# Altium schematic symbol library Fedor's_sch.SchLib: 115 symbols
Pins are listed as number, name and electrical type; pins without a type are passive.

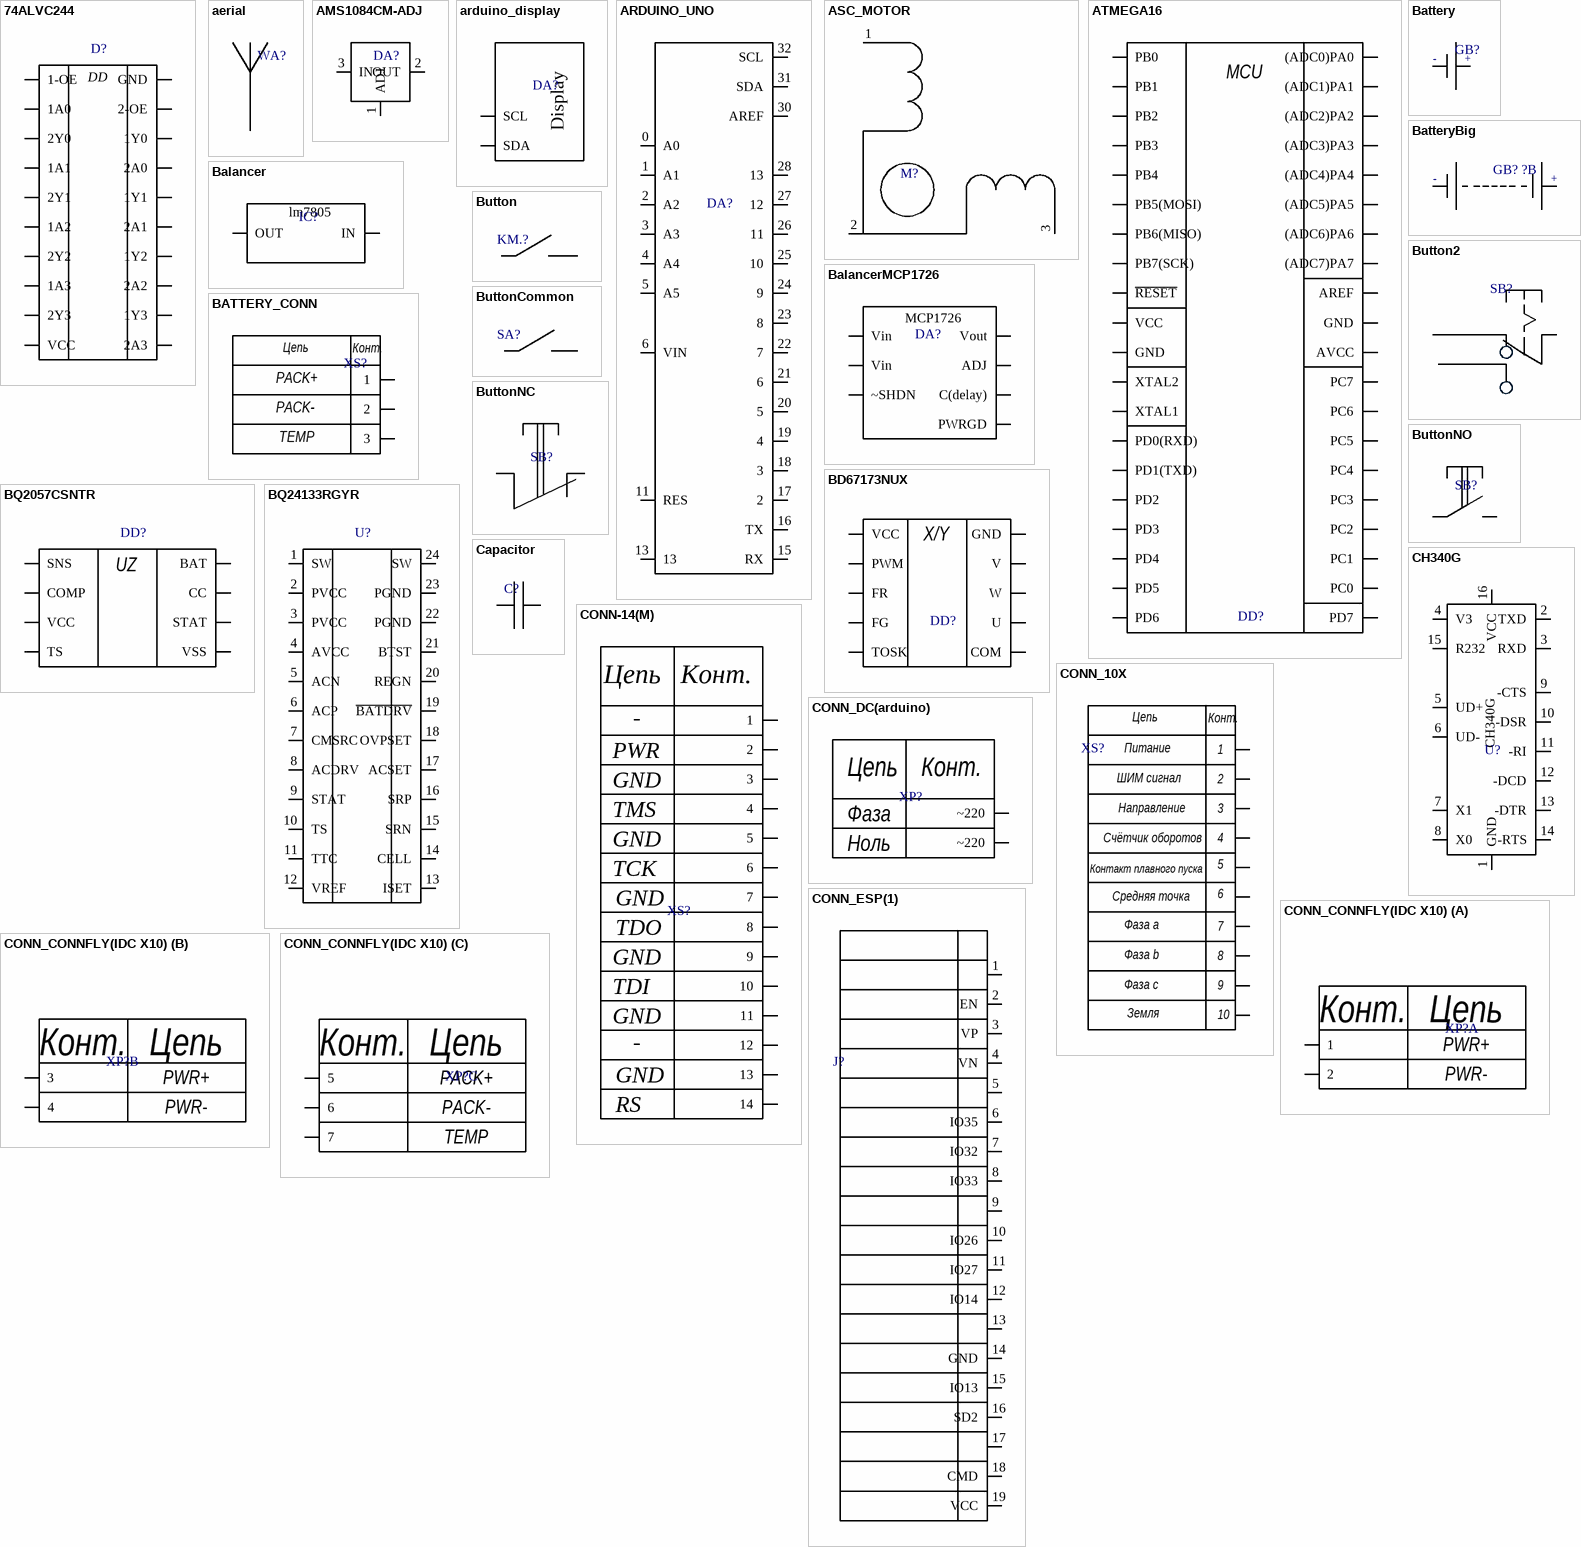
[diagram p0: symbols 74ALVC244 to CONN_ESP(1)]

## 74ALVC244
designator D?, comment buffer  (value not drawn)
footprint 74ALVC244 (BUFFER)
pins: 1 1-OE, 2 1A0, 3 2Y0, 4 1A1, 5 2Y1, 6 1A2, 7 2Y2, 8 1A3, 9 2Y3, 10 VCC, 11 2A3, 12 1Y3, 13 2A2, 14 1Y2, 15 2A1, 16 1Y1, 17 2A0, 18 1Y0, 19 2-OE, 20 GND
text: DD

## aerial
designator WA?  (value not drawn)
pins: 1

## AMS1084CM-ADJ
designator DA?  (value not drawn)
footprint AMS1084_Стабилизатор
pins: 1 ADJ, 2 OUT, 3 IN

## arduino_display
designator DA?  (value not drawn)
footprint arduino_display
pins: 1 GND hidden to GND, 2 VCC hidden to VCC, 3 SCL, 4 SDA
text: Display

## ARDUINO_UNO
designator DA?  (value not drawn)
footprint Arduino_Uno
pins: 0 A0, 1 A1, 2 A2, 3 A3, 4 A4, 5 A5, 6 VIN, 7 GND hidden to GND, 8 GND hidden to GND, 9 hidden, 10 +3.3V hidden to +3.3V, 11 RES, 12 +5V hidden to +5V, 13, 15 RX, 16 TX, 17 2, 18 3, 19 4, 20 5, 21 6, 22 7, 23 8, 24 9, 25 10, 26 11, 27 12, 28 13, 29 GND hidden to GND, 30 AREF, 31 SDA, 32 SCL

## ASC_MOTOR
designator M?  (value not drawn)
footprint PCBMotor-star4layer
pins: 1, 2, 3

## ATMEGA16
designator DD?  (value not drawn)
pins: 1 PB0, 2 PB1, 3 PB2, 4 PB3, 5 PB4, 6 PB5(MOSI), 7 PB6(MISO), 8 PB7(SCK), 9 ~{RESET}, 10 VCC, 11 GND, 12 XTAL2, 13 XTAL1, 14 PD0(RXD), 15 PD1(TXD), 16 PD2, 17 PD3, 18 PD4, 19 PD5, 20 PD6, 21 PD7, 22 PC0, 23 PC1, 24 PC2, 25 PC3, 26 PC4, 27 PC5, 28 PC6, 29 PC7, 30 AVCC, 31 GND, 32 AREF, 33 (ADC7)PA7, 34 (ADC6)PA6, 35 (ADC5)PA5, 36 (ADC4)PA4, 37 (ADC3)PA3, 38 (ADC2)PA2, 39 (ADC1)PA1, 40 (ADC0)PA0
text: MCU

## Balancer
designator IC?  (value not drawn)
footprint 7805 sbaliz
pins: 1 OUT, 2 GND hidden, 3 IN
text: lm7805

## BalancerMCP1726
designator DA?  (value not drawn)
footprint MCP1726
pins: 1 Vin, 2 Vin, 3 ~SHDN, 4 GND hidden to GND, 5 PWRGD, 6 C(delay), 7 ADJ, 8 Vout
text: MCP1726

## Battery
designator GB?  (value not drawn)
footprint battery
pins: 1, 2
text: -; +

## BATTERY_CONN
designator XS?  (value not drawn)
footprint conn(diy_x3)
pins: 1, 2, 3
text: Цепь; Конт.; PACK+; PACK-; TEMP

## BatteryBig
designator GB? ?В
footprint Power
pins: 1, 2
text: -; +

## BD67173NUX
designator DD?  (value not drawn)
footprint BD67173NUX (SON, 10-Leads, Body 3,00x3,00mm, Pitch 0,50mm, Thermal Pad 2,00x1,20mm, IPC High Density)
pins: 1 FG, 2 COM, 3 VCC, 4 U, 5 FR, 6 W, 7 V, 8 GND, 9 TOSK, 10 PWM
text: X/Y

## BQ2057CSNTR
designator DD?  (value not drawn)
footprint SOIC-8
pins: 1 SNS, 2 BAT, 3 VCC, 4 TS, 5 STAT, 6 VSS, 7 CC, 8 COMP
text: UZ

## BQ24133RGYR
designator U?  (value not drawn)
footprint B24133RGYR (Стабилизатор)
pins: 0 GND hidden to GND, 1 SW, 2 PVCC, 3 PVCC, 4 AVCC, 5 ACN, 6 ACP, 7 CMSRC, 8 ACDRV, 9 STAT, 10 TS, 11 TTC, 12 VREF, 13 ISET, 14 CELL, 15 SRN, 16 SRP, 17 ACSET, 18 OVPSET, 19 ~{BATDRV}, 20 REGN, 21 BTST, 22 PGND, 23 PGND, 24 SW

## Button
designator KM.?  (value not drawn)
footprint ANY_SWITCHER
pins: 1, 2

## Button2
designator SB?  (value not drawn)
footprint KAP1102E
pins: 1, 2, 3

## ButtonCommon
designator SA?  (value not drawn)
footprint ANY_SWITCHER
pins: 1, 2

## ButtonNC
designator SB?  (value not drawn)
footprint KLS7-TS3601-5.0-180
pins: 1, 2

## ButtonNO
designator SB?  (value not drawn)
footprint KLS7-TS3601-5.0-180
pins: 1, 2

## Capacitor
designator C?  (value not drawn)
footprint 1.8nf
footprint 3,3nf
footprint 22nf
footprint 150nf
footprint 150pf
footprint 180pf
footprint 330pf
footprint ANY_Condenser (For different conditions)
footprint 33nf
footprint 30pf
footprint 1nf
footprint 1uF
footprint 1206
footprint 0.1uF
footprint 2.2nf (CC1206JRNPO0BN222, 100V 2.2nF NP0 5% 1206 Multilayer Ceramic Capacitors MLCC - SMD/SMT ROHS)
footprint 10nf (типоразмер EIA 0603)
footprint 100nf (Любой конденсатор 0603)
footprint 220pf (Типоразмер EIA 0402)
footprint 100pF
footprint 22uf
footprint 0603
footprint 0805
footprint EIA0402(C) (1/16W 25-50V)
footprint EIA0603(C) (1/10W 50-100V)
footprint EIA0805(C) (1/8W 150-300V)
footprint EIA1206(C) (1/4W 200-400V)
footprint EIA1210(C) (1/3W 200-400V)
footprint EIA1218(C) (Chip Capacitor, 2-Leads, Body 3,15x4,50mm, IPC Medium Density)
footprint EIA1806(C) (Chip Capacitor, 2-Leads, Body 4,50x1,60mm, IPC Medium Density)
footprint EIA1808(C) (Chip Capacitor, 2-Leads, Body 4,50x2,00mm, IPC Medium Density)
footprint EIA1812(C) (Chip Capacitor, 2-Leads, Body 4,50x3,20mm, IPC Medium Density)
footprint EIA2010(C) (3/4W 200-400V)
footprint EIA2220(C) (Chip Capacitor, 2-Leads, Body 5,70x5,00mm, IPC Medium Density)
footprint EIA2225(C) (Chip Capacitor, 2-Leads, Body 5,70x6,30mm, IPC Medium Density)
footprint EIA2512(C) (1W 200-400V)
footprint EIA2824(C) (Chip Capacitor, 2-Leads, Body 7,10x6,10mm, IPC Medium Density)
footprint EIA3225(C) (Chip Capacitor, 2-Leads, Body 8,00x6,30mm, IPC Medium Density)
footprint EIA4030(C) (Chip Capacitor, 2-Leads, Body 10,20x7,60mm, IPC Medium Density)
footprint EIA4032(C) (Chip Capacitor, 2-Leads, Body 10,20x8,00mm, IPC Medium Density)
footprint EIA5040(C) (Chip Capacitor, 2-Leads, Body 12,70x10,20mm, IPC Medium Density)
footprint EIA6054(C) (Chip Capacitor, 2-Leads, Body 15,20x13,70mm, IPC Medium Density)
pins: 1, 2

## CH340G
designator U?  (value not drawn)
pins: 1 GND, 2 TXD, 3 RXD, 4 V3, 5 UD+, 6 UD-, 7 X1, 8 X0, 9 -CTS, 10 -DSR, 11 -RI, 12 -DCD, 13 -DTR, 14 -RTS, 15 R232, 16 VCC

## CONN-14(M)
designator XS?  (value not drawn)
footprint CONN-7*2(M)
pins: 1, 2, 3, 4, 5, 6, 7, 8, 9, 10, 11, 12, 13, 14
text: Цепь; Конт.; -; PWR; GND; TMS; TCK; TDO; TDI; RS

## CONN_10X
designator XS?  (value not drawn)
footprint CONN_10X
pins: 1 VCC, 2 PWM, 3 FR, 4 FG, 5 TOSK, 6 COM, 7 U, 8 W, 9 V, 10 GND
text: Цепь; Конт.; Питание; ШИМ сигнал; Направление; Счётчик оборотов; Контакт плавного пуска; Средняя точка; Фаза а; Фаза b; Фаза c; Земля

## CONN_CONNFLY(IDC X10)
designator XP?, comment DS1031-08-2*5P8BS41-3A, Штыревой, IDC, "папа", PIN 10, прямой, 1,27мм, SMD, 2x5, позолота  (value not drawn)
footprint CONN_IDC_PIN10
part A pins: 1, 2
part B pins: 3, 4
part C pins: 5, 6, 7
part A text: Конт.; Цепь; PWR+; PWR-
part B text: Конт.; Цепь; PWR+; PWR-
part C text: Конт.; Цепь; PACK+; PACK-; TEMP

## CONN_DC(arduino)
designator XP?  (value not drawn)
footprint CONN_DC (ARDUINO)
pins: 1 ~220, 2 ~220
text: Цепь; Конт.; Фаза; Ноль

## CONN_ESP(1)
designator J?  (value not drawn)
pins: 1 3V3, 2 EN, 3 VP, 4 VN, 5 IO34, 6 IO35, 7 IO32, 8 IO33, 9 IO25, 10 IO26, 11 IO27, 12 IO14, 13 IO12, 14 GND, 15 IO13, 16 SD2, 17 SD3, 18 CMD, 19 VCC

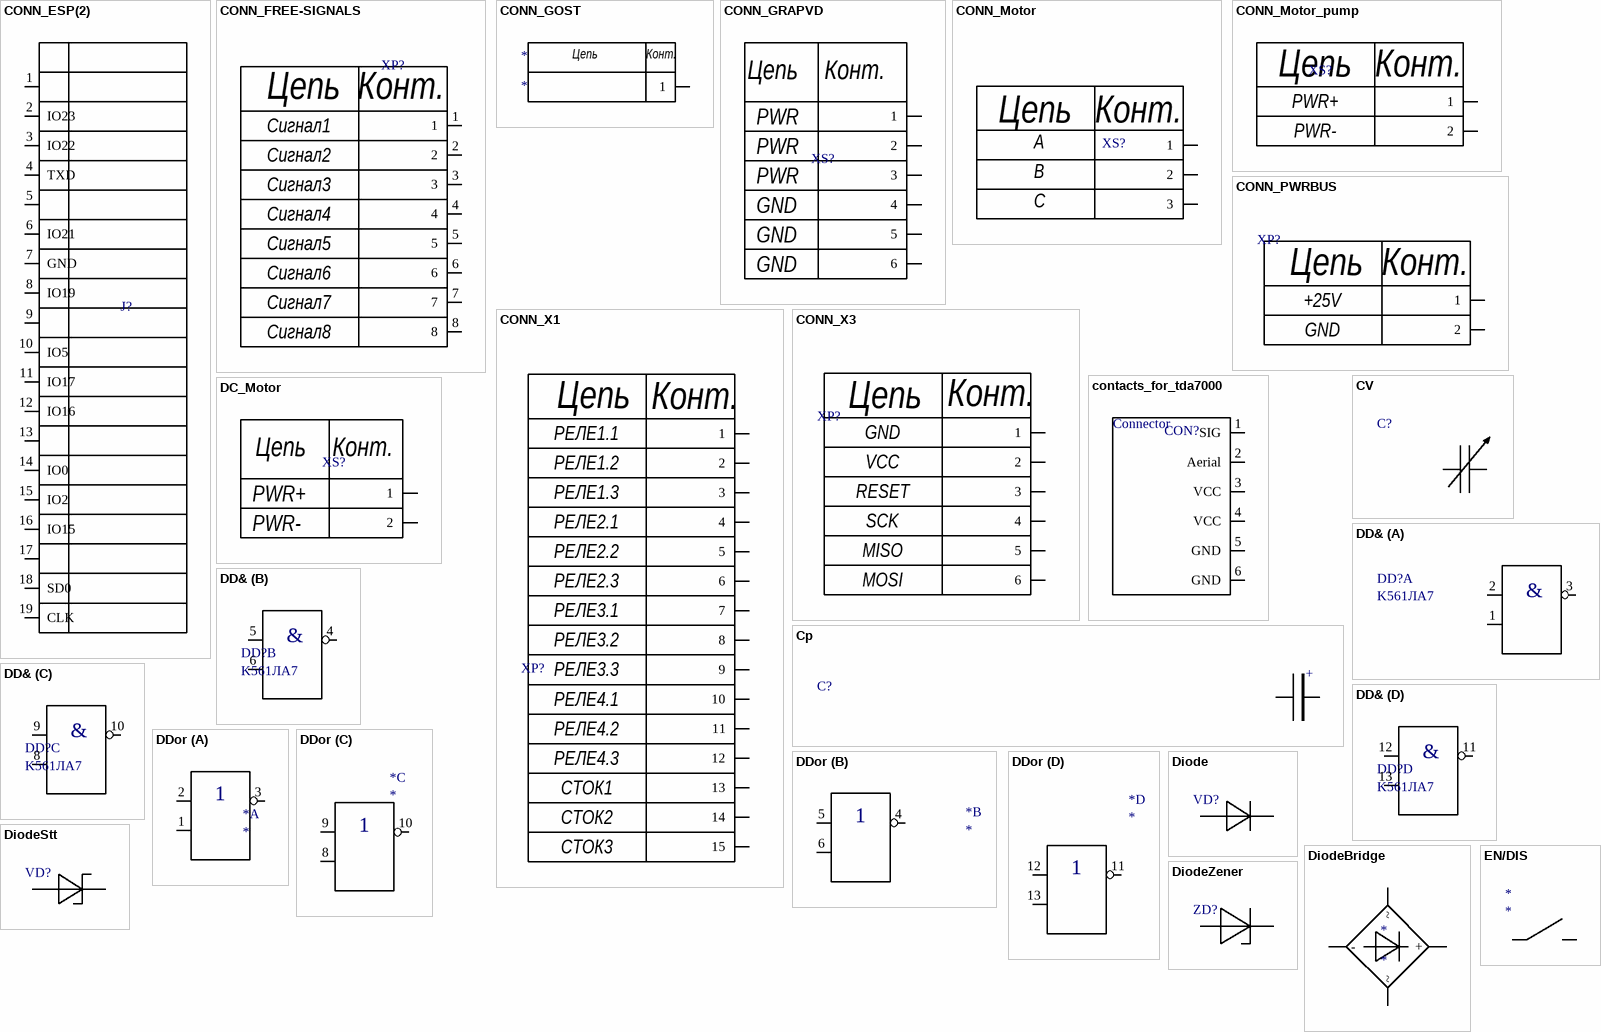
[diagram p1: symbols CONN_ESP(2) to EN/DIS]

## CONN_ESP(2)
designator J?  (value not drawn)
pins: 1 GND, 2 IO23, 3 IO22, 4 TXD, 5 RXD, 6 IO21, 7 GND, 8 IO19, 9 IO18, 10 IO5, 11 IO17, 12 IO16, 13 IO4, 14 IO0, 15 IO2, 16 IO15, 17 SD1, 18 SD0, 19 CLK

## CONN_FREE-SIGNALS
designator XP?  (value not drawn)
pins: 1, 2, 3, 4, 5, 6, 7, 8
text: Цепь; Конт.; Сигнал1; Сигнал2; Сигнал3; Сигнал4; Сигнал5; Сигнал6; Сигнал7; Сигнал8

## CONN_GOST
designator *
pins: 1
text: Цепь; Конт.

## CONN_GRAPVD
designator XS?  (value not drawn)
footprint CONN_GRAPHICSCARD
footprint CONN_PBD2-12 (ds1026-05-2*6s8bv)
pins: 1, 2, 3, 4, 5, 6
text: Цепь; Конт.; PWR; GND

## CONN_Motor
designator XS?  (value not drawn)
footprint conn_motor
footprint CONN_IDC_PIN3
pins: 1, 2, 3
text: Цепь; Конт.; A; B; C

## CONN_Motor_pump
designator XS?  (value not drawn)
footprint CONN(DIY)
pins: 1, 2
text: Цепь; Конт.; PWR+; PWR-

## CONN_PWRBUS
designator XP?  (value not drawn)
pins: 1, 2
text: Цепь; Конт.; +25V; GND

## CONN_X1
designator XP?  (value not drawn)
pins: 1, 2, 3, 4, 5, 6, 7, 8, 9, 10, 11, 12, 13, 14, 15
text: Цепь; Конт.; РЕЛЕ1.1; РЕЛЕ1.2; РЕЛЕ1.3; РЕЛЕ2.1; РЕЛЕ2.2; РЕЛЕ2.3; РЕЛЕ3.1; РЕЛЕ3.2; РЕЛЕ3.3; РЕЛЕ4.1; РЕЛЕ4.2; РЕЛЕ4.3; СТОК1; СТОК2; СТОК3

## CONN_X3
designator XP?  (value not drawn)
pins: 1, 2, 3, 4, 5, 6
text: Цепь; Конт.; GND; VCC; RESET; SCK; MISO; MOSI

## contacts_for_tda7000
designator CON?  (value not drawn)
footprint connector
pins: 1 SIG, 2 Aerial, 3 VCC, 4 VCC, 5 GND, 6 GND
text: Connector

## Cp
designator C?  (value not drawn)
footprint 100uF (polar)
footprint 470UF(P) (597D477X9016H2T, Tantalum Capacitors - Solid SMD 470uF 16volts 10% H Case Conformal)
pins: 1, 2
text: +

## CV
designator C?  (value not drawn)
footprint ANY_Condenser (For different conditions)
pins: 1, 2

## DC_Motor
designator XS?  (value not drawn)
pins: 1, 2
text: Цепь; Конт.; PWR+; PWR-

## DD&
designator DD?, comment K561ЛА7
footprint k561la7
part A pins: 1, 2, 3, 7 hidden to GND, 14 hidden to VCC
part B pins: 4, 5, 6
part C pins: 8, 9, 10
part D pins: 11, 12, 13
part A text: &
part B text: &
part C text: &
part D text: &

## DDor
designator *
footprint k561tm2
part A pins: 1, 2, 3, 7.3 hidden to GND, 14.3 hidden to VCC
part B pins: 4, 5, 6, 7.5 hidden to GND, 14.4 hidden to VCC
part C pins: 7.6 hidden to GND, 8, 9, 10, 14.5 hidden to VCC
part D pins: 11, 12, 13, 14.6 hidden to VCC, 14.7 hidden to GND

## Diode
designator VD?  (value not drawn)
footprint kd522b
pins: 1, 2

## DiodeBridge
designator *
pins: 1 ~, 2 -, 3 ~, 4 +

## DiodeStt
designator VD?  (value not drawn)
footprint 1n4148 (https://www.chipdip.ru/product0/8020762966.  1N4148WQ-7-F, Диод: импульсный, SMD, 100В, 300мА, 4нс, SOD123, Ufmax: 1,25В)
footprint UF4007
pins: 1, 2

## DiodeZener
designator ZD?  (value not drawn)
footprint 3.9V4W_Стабилитрон (Стабилитрон BZX284-C3V9 SOD110, 3.9В, 4Вт)
footprint 5.6V3W_Стабилитрон (1SMB5919B, Стабилитрон 5.6В 5% 3Вт [SMB])
footprint 24V3W_Стабилитрон (Z3SMC24, Диод стабилитрон, 3Вт, 24В)
pins: 1, 2

## EN/DIS
designator *
footprint ANY_SWITCHER
pins: 1, 2

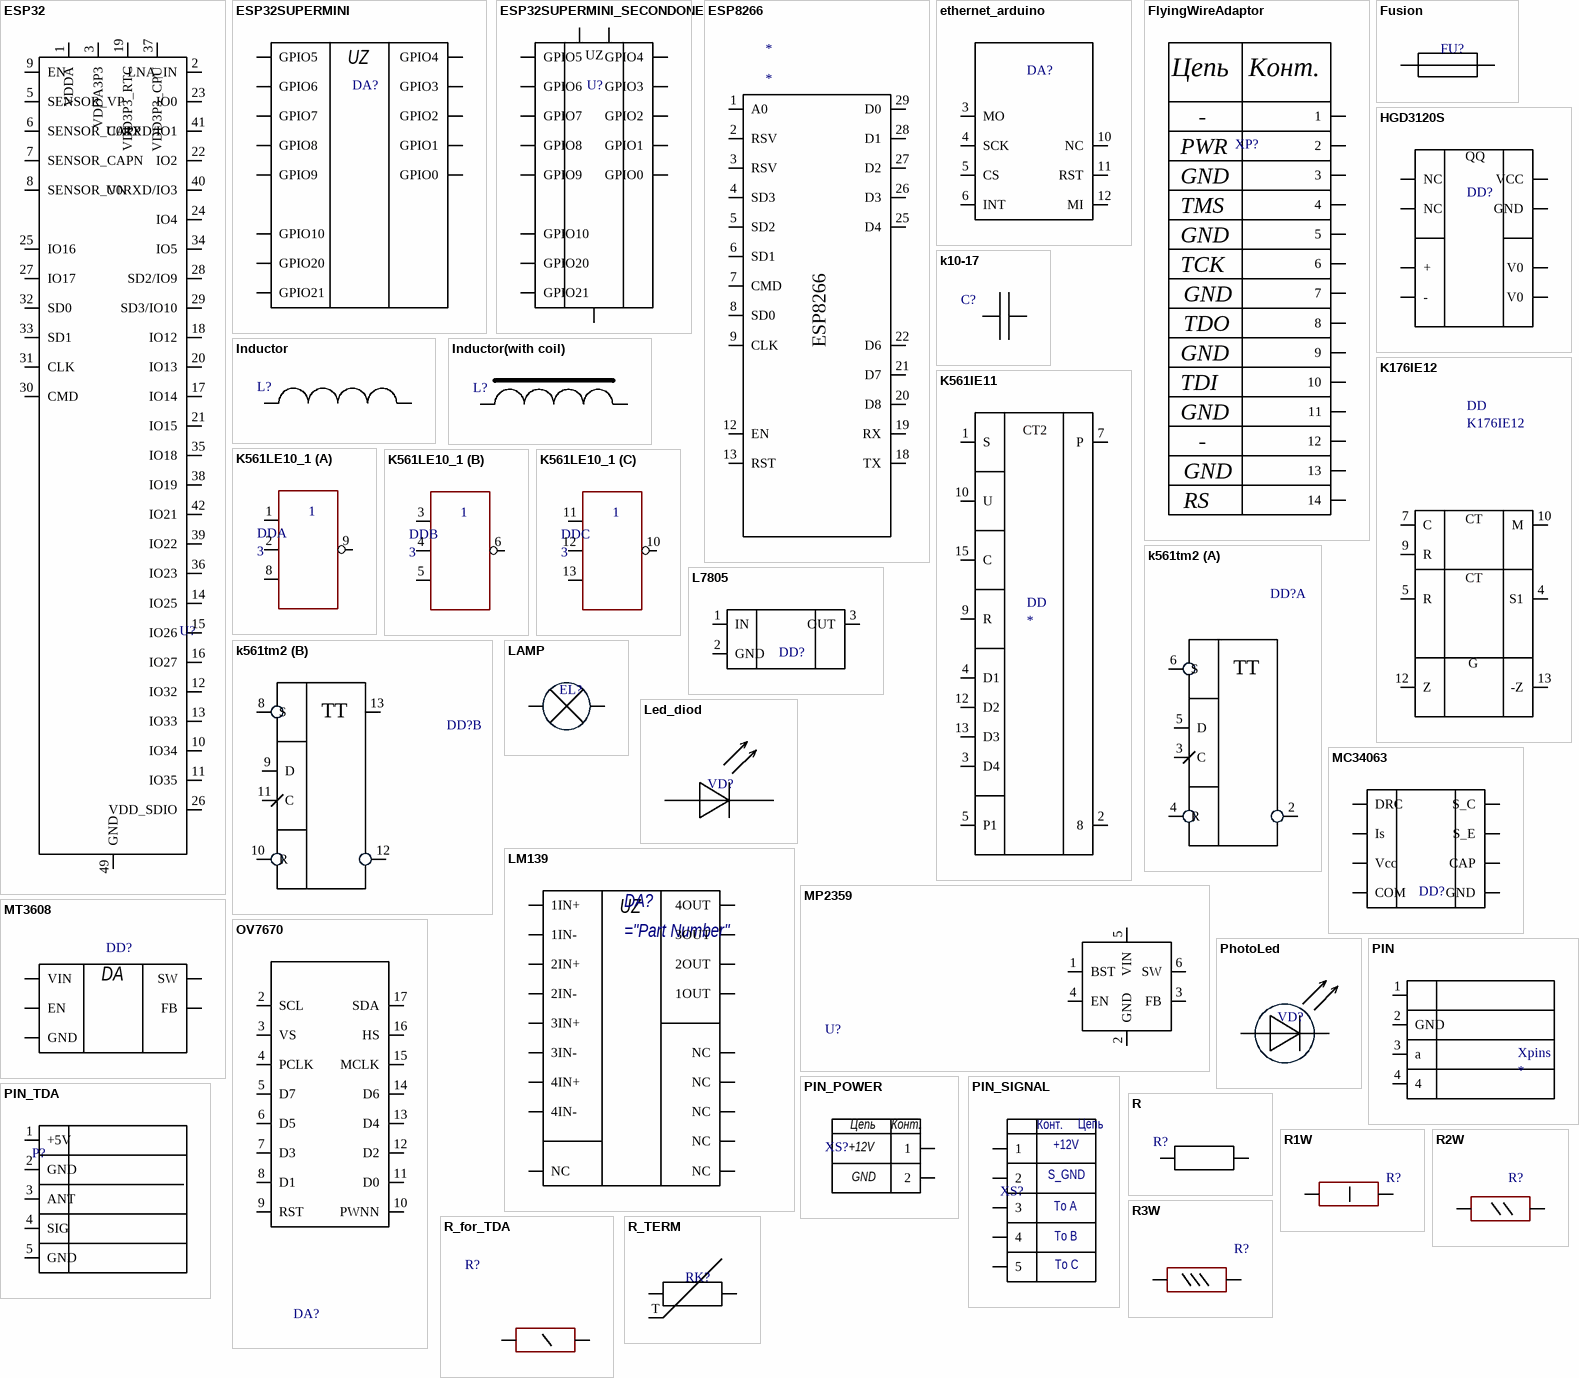
[diagram p2: symbols ESP32 to R_TERM]

## ESP32
designator U?, comment ESP32-PICO-D4  (value not drawn)
pins: 1 VDDA, 2 LNA_IN, 3 VDDA3P3, 5 SENSOR_VP, 6 SENSOR_CAPP, 7 SENSOR_CAPN, 8 SENSOR_VN, 9 EN, 10 IO34, 11 IO35, 12 IO32, 13 IO33, 14 IO25, 15 IO26, 16 IO27, 17 IO14, 18 IO12, 19 VDD3P3_RTC, 20 IO13, 21 IO15, 22 IO2, 23 IO0, 24 IO4, 25 IO16, 26 VDD_SDIO, 27 IO17, 28 SD2/IO9, 29 SD3/IO10, 30 CMD, 31 CLK, 32 SD0, 33 SD1, 34 IO5, 35 IO18, 36 IO23, 37 VDD3P3_CPU, 38 IO19, 39 IO22, 40 U0RXD/IO3, 41 U0RXD/IO1, 42 IO21, 49 GND

## ESP32SUPERMINI
designator DA?  (value not drawn)
footprint ESP32SUPERMINI
pins: 0 GPIO0, 1 GPIO1, 2 GPIO2, 3 GPIO3, 4 GPIO4, 5 GPIO5, 6 GPIO6, 7 GPIO7, 8 GPIO8, 9 GPIO9, 10 GPIO10, 20 GPIO20, 21 GPIO21, +3V3 Power hidden to +3V3, +5V Power hidden to +5V, GND Ground hidden to GND
text: UZ

## ESP32SUPERMINI_SECONDONE
designator U?  (value not drawn)
footprint ESP32SUPERMINI
pins: 0 GPIO0, 1 GPIO1, 2 GPIO2, 3 GPIO3, 4 GPIO4, 5 GPIO5, 6 GPIO6, 7 GPIO7, 8 GPIO8, 9 GPIO9, 10 GPIO10, 20 GPIO20, 21 GPIO21, +3V3 Power hidden to 3V3, +5V Power hidden to +5V, GND Ground hidden to GND
text: UZ

## ESP8266
designator *
footprint esp8266
pins: 1 A0, 2 RSV, 3 RSV, 4 SD3, 5 SD2, 6 SD1, 7 CMD, 8 SD0, 9 CLK, 10 GND hidden to GND, 11 3V3 hidden to 3V3, 12 EN, 13 RST, 14 GND hidden to GND, 15 VIN hidden to VIN, 16 3V3 hidden to 3V3, 17 GND hidden to GND, 18 TX, 19 RX, 20 D8, 21 D7, 22 D6, 23 GND hidden to GND, 24 3V3 hidden to 3V3, 25 D4, 26 D3, 27 D2, 28 D1, 29 D0

## ethernet_arduino
designator DA?  (value not drawn)
pins: 1 hidden to GND, 2 hidden to GND, 3 MO, 4 SCK, 5 CS, 6 INT, 7 hidden to GND, 8 hidden to +3.3V, 9 hidden to +3.3V, 10 NC, 11 RST, 12 MI

## FlyingWireAdaptor
designator XP?  (value not drawn)
footprint conn-14 (878321420)
footprint CONN_PROG
pins: 1, 2, 3, 4, 5, 6, 7, 8, 9, 10, 11, 12, 13, 14
text: Цепь; Конт.; -; PWR; GND; TMS; TCK; TDO; TDI; RS

## Fusion
designator FU?  (value not drawn)
pins: 1, 2

## HGD3120S
designator DD?, comment PhotoDriver(IGBT)  (value not drawn)
pins: 1 NC, 2 +, 3 -, 4 NC, 5 GND, 6 V0, 7 V0, 8 VCC
text: QQ

## Inductor
designator L?  (value not drawn)
footprint 56nh
footprint ANY_INDUCTOR
footprint 100uh
footprint eiasp43
footprint motorstar_conductor_1
footprint motorstar_conductor_2
footprint motorstar_conductor_3
pins: 1, 2

## Inductor(with coil)
designator L?  (value not drawn)
footprint 56nh
footprint ANY_INDUCTOR
footprint 100uh
footprint eiasp43
pins: 1, 2

## k10-17
designator C?  (value not drawn)
footprint k10-17
pins: 1, 2

## K176IE12
designator DD
footprint k176ie12
pins: 4 S1, 5 R, 7 C, 8 hidden to GND, 9 R, 10 M, 12 Z, 13 -Z, 16 hidden to VCC "VCC"
text: CT; G

## K561IE11
designator DD
footprint k561ie11
pins: 1 S, 2 8, 3 D4, 4 D1, 5 P1, 7 P, 8 hidden to GND "GND", 9 R, 10 U, 12 D2, 13 D3, 15 C, 16 hidden to VCC "VCC"
text: CT2

## K561LE10_1
designator DD, comment 3
footprint k561LE10
part A pins: 1, 2, 8, 9
part B pins: 3, 4, 5, 6
part C pins: 10, 11, 12, 13

## k561tm2
designator DD?  (value not drawn)
footprint k561tm2
part A pins: 2, 3 C, 4 R, 5 D, 6 S, 7 hidden to GND, 14 hidden to VCC
part B pins: 8 S, 9 D, 10 R, 11 C, 12, 13
part A text: TT
part B text: TT

## L7805
designator DD?  (value not drawn)
pins: 1 IN, 2 GND, 3 OUT

## LAMP
designator EL?  (value not drawn)
pins: 1, 2

## Led_diod
designator VD?  (value not drawn)
footprint LED 0603
pins: 1, 2

## LM139
designator DA?
footprint LCC127P889X889X223-20N (LCC, 20-Pins, Body 8,89x8,89mmx2,23mm, Pitch 1,27mm, IPC Medium Density)
pins: 1 NC, 2 1OUT, 3 2OUT, 4 VCC hidden, 5 NC, 6 2IN-, 7 NC, 8 2IN+, 9 1IN-, 10 1IN+, 11 NC, 12 3IN-, 13 3IN+, 14 4IN-, 15 NC, 16 4IN+, 17 NC, 18 GND hidden, 19 4OUT, 20 3OUT
text: UZ

## MC34063
designator DD?  (value not drawn)
pins: 1 S_C, 2 S_E, 3 CAP, 4 GND, 5 COM, 6 Vcc, 7 Is, 8 DRC

## MP2359
designator U?  (value not drawn)
pins: 1 BST, 2 GND, 3 FB, 4 EN, 5 VIN, 6 SW

## MT3608
designator DD?  (value not drawn)
footprint mt3608 (SOT23, 6-Leads, Body 2,80x2,80mm, Pitch 0,95mm, IPC Medium Density)
pins: 1 SW, 2 GND, 3 FB, 4 EN, 5 VIN
text: DA

## OV7670
designator DA?  (value not drawn)
footprint OV7670
pins: 1 hidden to +3.3V, 2 SCL, 3 VS, 4 PCLK, 5 D7, 6 D5, 7 D3, 8 D1, 9 RST, 10 PWNN, 11 D0, 12 D2, 13 D4, 14 D6, 15 MCLK, 16 HS, 17 SDA, 18 hidden to GND

## PhotoLed
designator VD?  (value not drawn)
footprint FD1-1
pins: 1, 2

## PIN
designator Xpins
pins: 1 VCC, 2 GND, 3 a, 4

## PIN_POWER
designator XS?  (value not drawn)
footprint PIN_POWER
footprint XT60
pins: 1, 2
text: Цепь; Конт.; +12V; GND

## PIN_SIGNAL
designator XS?  (value not drawn)
footprint PIN_SIGNAL
pins: 1, 2, 3, 4, 5
text: Конт.; Цепь; +12V; S_GND; To A; To B; To C

## PIN_TDA
designator P?  (value not drawn)
footprint ANY_PINS
pins: 1 +5V, 2 GND, 3 ANT, 4 SIG, 5 GND

## R
designator R?  (value not drawn)
footprint ANY_RESISTANCE
footprint EIA0402 (1/16W 25-50V)
footprint EIA0603 (1/10W 50-100V)
footprint EIA0805 (1/8W 150-300V)
footprint EIA1206 (1/4W 200-400V)
footprint EIA1210 (1/3W 200-400V)
footprint EIA1218 (Chip Resistor, 2-Leads, Body 3,15x4,50mm, IPC Medium Density)
footprint EIA1806 (Chip Resistor, 2-Leads, Body 4,50x1,60mm, IPC Medium Density)
footprint EIA1808 (Chip Resistor, 2-Leads, Body 4,50x2,00mm, IPC Medium Density)
footprint EIA1812 (Chip Resistor, 2-Leads, Body 4,50x3,20mm, IPC Medium Density)
footprint EIA2010 (3/4W 200-400V)
footprint EIA2220 (Chip Resistor, 2-Leads, Body 5,70x5,00mm, IPC Medium Density)
footprint EIA2225 (Chip Resistor, 2-Leads, Body 5,70x6,30mm, IPC Medium Density)
footprint EIA2512 (1W 200-400V)
footprint EIA2824 (Chip Resistor, 2-Leads, Body 7,10x6,10mm, IPC Medium Density)
footprint EIA3225 (Chip Resistor, 2-Leads, Body 8,00x6,30mm, IPC Medium Density)
footprint EIA4030 (Chip Resistor, 2-Leads, Body 10,20x7,60mm, IPC Medium Density)
footprint EIA4032 (Chip Resistor, 2-Leads, Body 10,20x8,00mm, IPC Medium Density)
footprint EIA5040 (Chip Resistor, 2-Leads, Body 12,70x10,20mm, IPC Medium Density)
footprint EIA6054 (Chip Resistor, 2-Leads, Body 15,20x13,70mm, IPC Medium Density)
pins: 1, 2

## R1W
designator R?  (value not drawn)
footprint 3.3OHMS(1W) (1Вт 2512 3.3 Ом, 1%, Чип резистор (SMD))
pins: 1, 2

## R2W
designator R?  (value not drawn)
footprint MLT0.125
pins: 1, 2

## R3W
designator R?  (value not drawn)
footprint MLT0.125
pins: 1, 2

## R_for_TDA
designator R?  (value not drawn)
footprint 10k
footprint 22K
footprint 4.7k
footprint 47 ohms
footprint 75 ohms
footprint 1206
pins: 1, 2

## R_TERM
designator RK?  (value not drawn)
footprint d0.5mm X2
pins: 1, 2
text: T

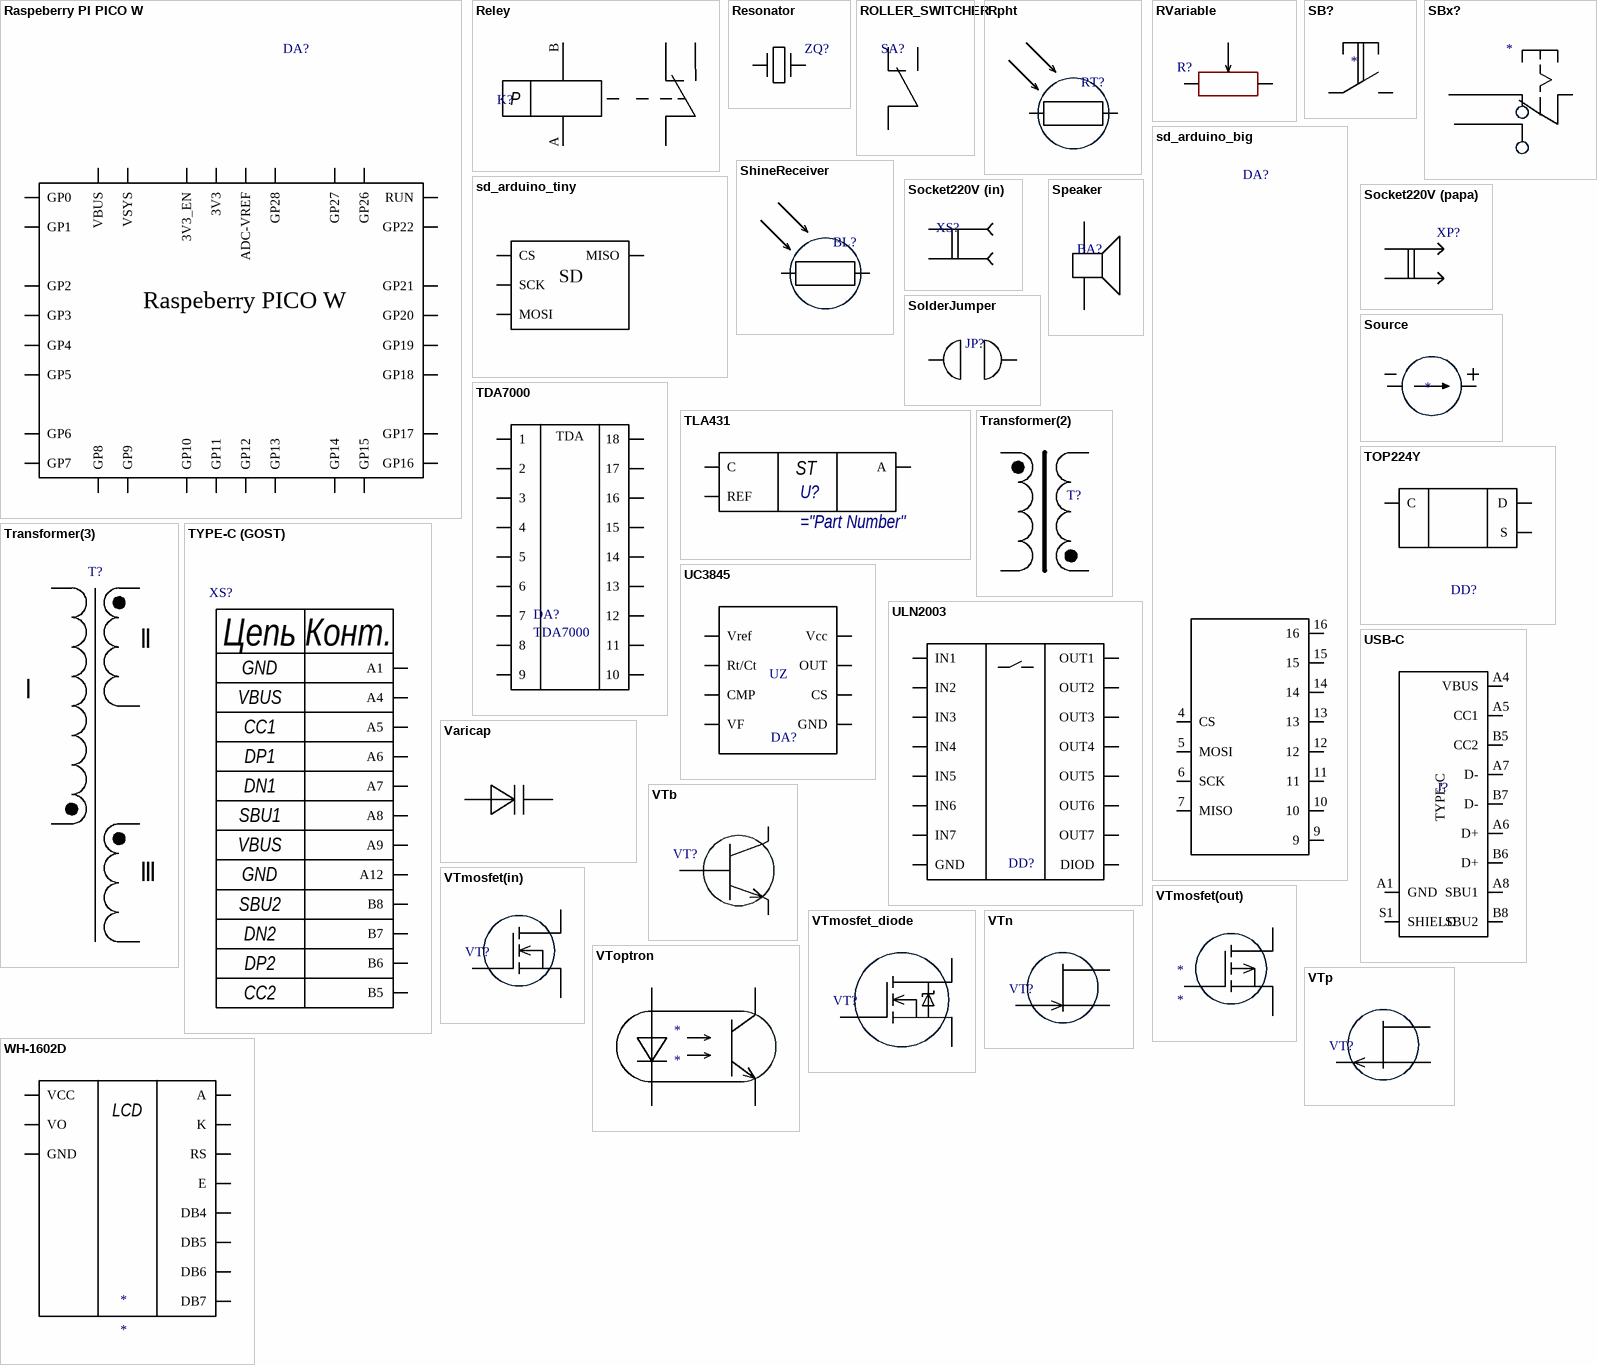
[diagram p3: symbols Raspeberry PI PICO W to WH-1602D]

## Raspeberry PI PICO W
designator DA?  (value not drawn)
footprint Raspeberry_pi_pico
pins: 1 GP0, 2 GP1, 3 GND hidden to GND, 4 GP2, 5 GP3, 6 GP4, 7 GP5, 8 GND hidden to GND, 9 GP6, 10 GP7, 11 GP8, 12 GP9, 13 GND hidden to GND, 14 GP10, 15 GP11, 16 GP12, 17 GP13, 18 GND hidden to GND, 19 GP14, 20 GP15, 21 GP16, 22 GP17, 23 GND hidden to GND, 24 GP18, 25 GP19, 26 GP20, 27 GP21, 28 GND hidden to GND, 29 GP22, 30 RUN, 31 GP26, 32 GP27, 33 GND hidden to GND, 34 GP28, 35 ADC-VREF, 36 3V3, 37 3V3_EN, 38 GND hidden to GND, 39 VSYS, 40 VBUS
text: Raspeberry PICO W

## Reley
designator K?  (value not drawn)
footprint RES49
pins: 3, 4, 5, A 2, B 1
text: P

## Resonator
designator ZQ?  (value not drawn)
footprint Rezonator
pins: 1, 2

## ROLLER_SWITCHER
designator SA?  (value not drawn)
footprint SS-12F23 (Switcher) (Переключатель движковый, 13x 6.0h7, контакты 3P+2P(GND), 0.5А, 50В, SPDT, угловой)
pins: 1, 2, 3

## Rpht
designator RT?  (value not drawn)
footprint FD1-1
pins: 1, 2

## RVariable
designator R?  (value not drawn)
footprint VAR2.5Koms
footprint VAR100K (PVG5A104C03R00, (100К 0.25W SMD), Резистор переменный керметный 100кОм +10% 0.25Вт (4.8х3.9х5.3)мм SMD. https://www.chipdip.ru/product0/8025007601)
pins: 1, 2, 3

## SB?
designator *  (value not drawn)
footprint KLS7-TS3601-5.0-180
pins: 1, 2

## SBx?
designator *  (value not drawn)
footprint KAP1102E
pins: 1, 2, 3

## sd_arduino_big
designator DA?  (value not drawn)
pins: 1 hidden, 2 hidden to +3.3V, 3 hidden to +5V, 4 CS, 5 MOSI, 6 SCK, 7 MISO, 8 hidden, 9, 10, 11, 12, 13, 14, 15, 16

## sd_arduino_tiny
designator DA?  (value not drawn)
footprint sd_arduino
pins: 1 CS, 2 SCK, 3 MOSI, 4 MISO, 5 VCC hidden to VCC, 6 GND hidden to GND
text: SD

## ShineReceiver
designator BL?  (value not drawn)
footprint FD1-1
pins: 1, 2

## Socket220V (in)
designator XS?  (value not drawn)
pins: 1, 2

## Socket220V (papa)
designator XP?  (value not drawn)
pins: 1, 2

## SolderJumper
designator JP?  (value not drawn)
pins: 1, 2

## Source
designator PW?
footprint Power
pins: 1, 2

## Speaker
designator BA?  (value not drawn)
pins: 1, 2

## TDA7000
designator DA?
footprint DIP18
pins: 1, 2, 3, 4, 5, 6, 7, 8, 9, 10, 11, 12, 13, 14, 15, 16, 17, 18
text: TDA

## TLA431
designator U?
footprint SOT95P237X112-3N (SOT23, 3-Leads, Body 2,92x2,37mm, Pitch 0,95mm, IPC Medium Density)
pins: 1 C, 2 REF, 3 A
text: ST

## TOP224Y
designator DD?  (value not drawn)
pins: 1 C, 2 S, 3 D

## Transformer(2)
designator T?  (value not drawn)
pins: 1, 2, 3, 4

## Transformer(3)
designator T?  (value not drawn)
pins: 1, 2, 3, 4, 5, 6
text: Ⅱ; Ⅰ; Ⅲ

## TYPE-C (GOST)
designator XS?  (value not drawn)
footprint type-c (16-pin)
pins: 1 A1, 2 A4, 3 A5, 4 A6, 5 A7, 6 A8, 7 A9, 8 A12, 11 B8, 12 B7, 13 B6, 14 B5
text: Цепь; Конт.; GND; VBUS; CC1; DP1; DN1; SBU1; SBU2; DN2; DP2; CC2

## UC3845
designator DA?  (value not drawn)
footprint UC3844
pins: 1 CMP, 2 VF, 3 CS, 4 Rt/Ct, 5 GND, 6 OUT, 7 Vcc, 8 Vref
text: UZ

## ULN2003
designator DD?  (value not drawn)
pins: 1 IN1, 2 IN2, 3 IN3, 4 IN4, 5 IN5, 6 IN6, 7 IN7, 8 GND, 9 DIOD, 10 OUT7, 11 OUT6, 12 OUT5, 13 OUT4, 14 OUT3, 15 OUT2, 16 OUT1

## USB-C
designator J?  (value not drawn)
pins: A1 GND, A4 VBUS, A5 CC1, A6 D+, A7 D-, A8 SBU1, B5 CC2, B6 D+, B7 D-, B8 SBU2, S1 SHIELD
text: TYPE-C

## Varicap
designator VD?  (value not drawn)
footprint kv109v
pins: 1, 2

## VTb
designator VT?, comment /  (value not drawn)
footprint BC547_SOT23-3
footprint BIPOLAR_BT(1) (PBSS2515M)
footprint FZT788B (SOT223, 4-Leads, Body 6,50x7,00mm (avg), Pitch 2,30mm, IPC Medium Density)
pins: 1, 2 (oe), 3 (oc)

## VTmosfet(in)
designator VT?  (value not drawn)
footprint IRF630(TO263)
pins: 1 С, 2 И, 3 З

## VTmosfet(out)
designator *
pins: 1 С, 2 И, 3 З

## VTmosfet_diode
designator VT?  (value not drawn)
pins: 1 С, 2 И, 3 З

## VTn
designator VT?  (value not drawn)
pins: 1 С, 2 И, 3 З

## VToptron
designator *
pins: 1, 2 (oe), 2, 3 (oc)

## VTp
designator VT?  (value not drawn)
pins: 1 С, 2 И, 3 З

## WH-1602D
designator *
pins: 1 VCC, 2 VO, 3 GND, 4 RS, 6 E, 11 DB4, 12 DB5, 13 DB6, 14 DB7, A, K
text: LCD